# EAGLE library part ADC8143 (library custom1)
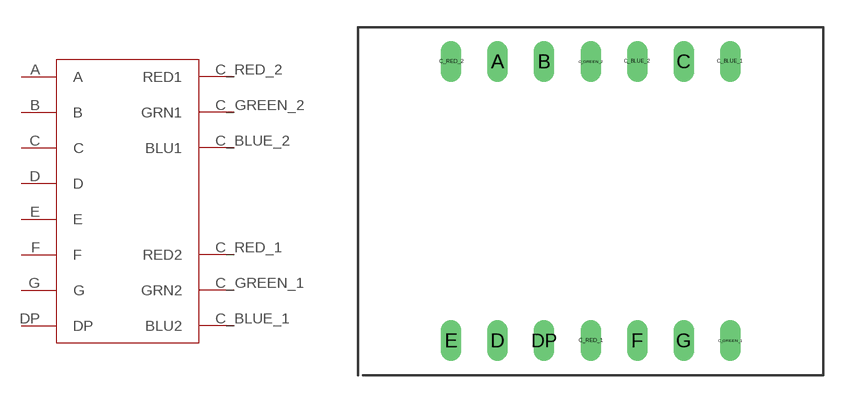
[diagram p0: symbol with the pads of ADC8143; footprint ADC8143]

Designator prefix -

## ADC8143  [ADC8143]
A  A
B  B
C  C
C_BLUE_1  BLU2
C_BLUE_2  BLU1
C_GREEN_1  GRN2
C_GREEN_2  GRN1
C_RED_1  RED2
C_RED_2  RED1
D  D
DP  DP
E  E
F  F
G  G

## Footprint ADC8143 (pad centres in mm)
drill 0.6 long: A 7.62,17.145; B 10.16,17.145; C 17.78,17.145; C_BLUE_1 20.32,17.145; C_BLUE_2 15.24,17.145; C_GREEN_1 20.32,1.905; C_GREEN_2 12.7,17.145; C_RED_1 12.7,1.905; C_RED_2 5.08,17.145; D 7.62,1.905; DP 10.16,1.905; E 5.08,1.905; F 15.24,1.905; G 17.78,1.905